# EAGLE library part RFM12B/69CW (library UPRA_RF)
HopeRF RFM-12B/RFM-69CW Transceiver Pinout and footprint are the same for both RFM-12B and RFM-69CW transceivers.
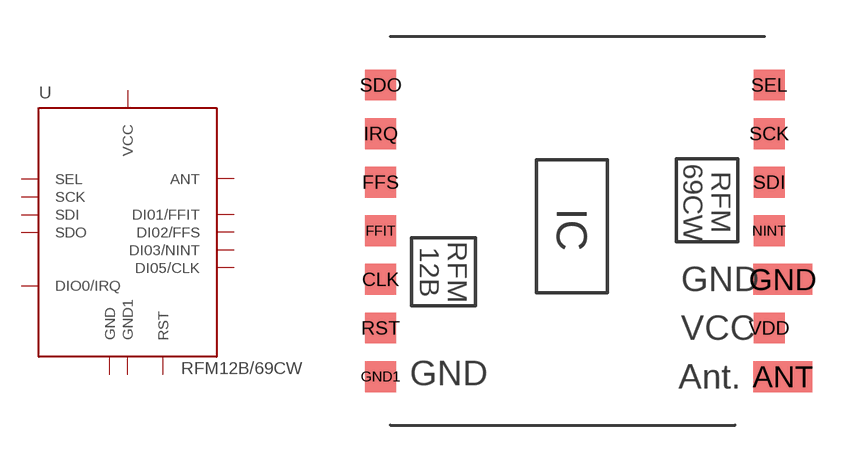
[diagram p2: symbol with the pads of RFM12B/69CW; footprint RFM12B/69CW]

Designator prefix U

## RFM12B/69CW  [RFM12B/69CW]
ANT  ANT  pas
CLK  DI05/CLK  pas
FFIT  DI01/FFIT  pas
FFS  DI02/FFS
GND  GND  pwr
GND1  GND1  pwr
IRQ  DIO0/IRQ  oc
NINT  DI03/NINT  pas
RST  RST  oc
SCK  SCK  in
SDI  SDI  in
SDO  SDO  out
SEL  SEL  in
VDD  VCC  pwr

## Footprint RFM12B/69CW (pad centres in mm)
RFM12B radio module by HopeRF
smd 2.413 x 1.27: ANT 9.06,-6; GND 9.06,-2
smd 1.27 x 1.27: CLK -7.5,-2; FFIT -7.5,0; FFS -7.5,2; GND1 -7.5,-6; IRQ -7.5,4; NINT 8.5,0; RST -7.5,-4; SCK 8.5,4; SDI 8.5,2; SDO -7.5,6; SEL 8.5,6; VDD 8.5,-4